# Altium schematic symbol library 691 216 510 0xxS.SchLib: 2 symbols
Pins are listed as number, name and electrical type; pins without a type are passive.

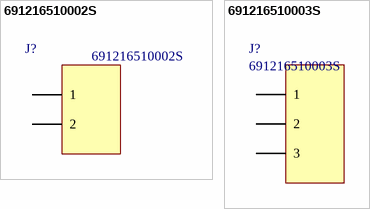
[diagram p0: symbols 691216510002S to 691216510003S]

## 691216510002S
designator J?
Horizontal Cable Entry with Rising Cage Clamp, Serie 2165S - 5.08 mm; Manufacturer: Wurth Elektronik; ComponentLink1 Description: Manufacturer; ComponentLink2 Description: Datasheet; NoPins: 2; ComponentLink1 URL: http://www.we-online.com; ComponentLink2 URL: http://katalog.we-online.de/em/datasheet/6912165100xxS.pdf; Created By: Baojun Chen; Created Date: 6-Aug-15; PartNo: 691216510002S; Value: 691216510002S
footprint 691216510002S (Serie 2165S - 5.08 mm _ 2 pins)
pins: 1, 2

## 691216510003S
designator J?
Horizontal Cable Entry with Rising Cage Clamp, Serie 2165S - 5.08 mm; Manufacturer: Wurth Elektronik; ComponentLink1 Description: Manufacturer; ComponentLink2 Description: Datasheet; NoPins: 3; ComponentLink1 URL: http://www.we-online.com; ComponentLink2 URL: http://katalog.we-online.de/em/datasheet/6912165100xxS.pdf; Created By: Baojun Chen; Created Date: 6-Aug-15; PartNo: 691216510003S; Value: 691216510003S
footprint 691216510003S (Serie 2165S - 5.08 mm _ 3 pins)
pins: 1, 2, 3